# EAGLE library part ADC_CON_CS2 (library Arduino_Board)
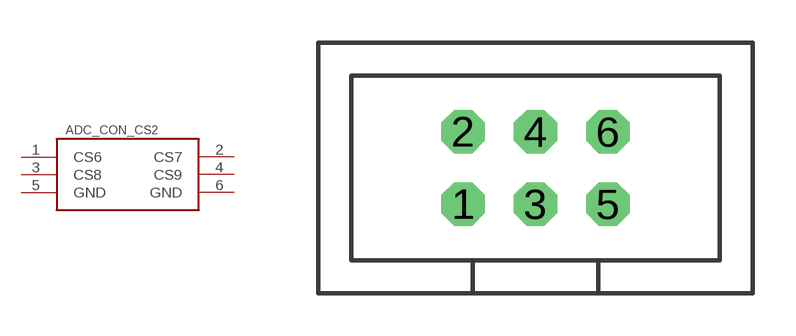
[diagram p3: symbol with the pads of T821_2X03; footprint T821_2X03]

Designator prefix -

## ADC_CON_CS2  [T821_2X03]
1  CS6
2  CS7
3  CS8
4  CS9
5  GND  pwr
6  GND  pwr

## Footprint T821_2X03 (pad centres in mm)
drill 1.016 octagon: 1 -2.54,-1.27; 2 -2.54,1.27; 3 0,-1.27; 4 0,1.27; 5 2.54,-1.27; 6 2.54,1.27